# Altium footprint library B_FPC51_P030_STAGGERED.PcbLib: 1 footprints
Each footprint in its own frame and in the unit in brackets; x right, y up, seen from the top. Pads: shape width x height; smd on the part's side, far side on the other; paste and mask are expansions set on the pad; w line width, h text height; cw(c..) or ccw(c..) is an arc to the next point about the centre after c.
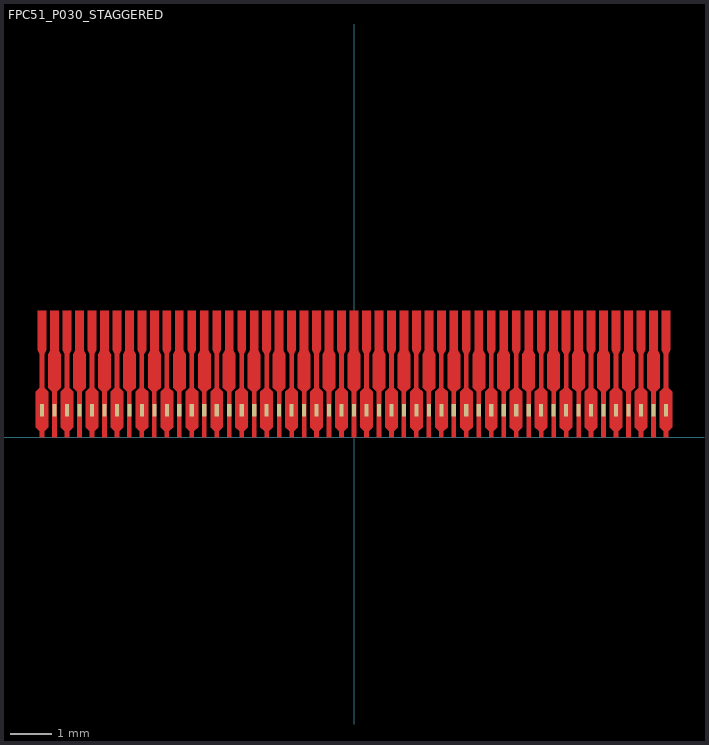
[diagram p0: the footprint, top view; thin cyan lines are the x and y axes]

## FPC51_P030_STAGGERED [mm] "Saved adapter geometry; component-specific orientation"
pads (51):
  rect 0.1x0.3 smd paste-2539.97 mask+0: 1(-7.5,0.65) 2(-7.2,0.65) 3(-6.9,0.65) 4(-6.6,0.65) 5(-6.3,0.65) 6(-6,0.65) 7(-5.7,0.65) 8(-5.4,0.65) 9(-5.1,0.65) 10(-4.8,0.65) 11(-4.5,0.65) 12(-4.2,0.65) 13(-3.9,0.65) 14(-3.6,0.65) 15(-3.3,0.65) 16(-3,0.65) 17(-2.7,0.65) 18(-2.4,0.65) 19(-2.1,0.65) 20(-1.8,0.65) 21(-1.5,0.65) 22(-1.2,0.65) 23(-0.9,0.65) 24(-0.6,0.65) 25(-0.3,0.65) 26(0,0.65) 27(0.3,0.65) 28(0.6,0.65) 29(0.9,0.65) 30(1.2,0.65) 31(1.5,0.65) 32(1.8,0.65) 33(2.1,0.65) 34(2.4,0.65) 35(2.7,0.65) 36(3,0.65) 37(3.3,0.65) 38(3.6,0.65) 39(3.9,0.65) 40(4.2,0.65) 41(4.5,0.65) 42(4.8,0.65) 43(5.1,0.65) 44(5.4,0.65) 45(5.7,0.65) 46(6,0.65) 47(6.3,0.65) 48(6.6,0.65) 49(6.9,0.65) 50(7.2,0.65) 51(7.5,0.65)
Top Layer:
  region: 7.55,0 7.55,0.15 7.65,0.25 7.65,1.1 7.55,1.2 7.55,2 7.6,2.1 7.6,3.05 7.4,3.05 7.4,2.1 7.45,2 7.45,1.2 7.35,1.1 7.35,0.25 7.45,0.15 7.45,0
  region: 7.25,0 7.25,1.1 7.35,1.2 7.35,2 7.3,2.1 7.3,3.05 7.1,3.05 7.1,2.1 7.05,2 7.05,1.2 7.15,1.1 7.15,0
  region: 6.95,0 6.95,0.15 7.05,0.25 7.05,1.1 6.95,1.2 6.95,2 7,2.1 7,3.05 6.8,3.05 6.8,2.1 6.85,2 6.85,1.2 6.75,1.1 6.75,0.25 6.85,0.15 6.85,0
  region: 6.65,0 6.65,1.1 6.75,1.2 6.75,2 6.7,2.1 6.7,3.05 6.5,3.05 6.5,2.1 6.45,2 6.45,1.2 6.55,1.1 6.55,0
  region: 6.35,0 6.35,0.15 6.45,0.25 6.45,1.1 6.35,1.2 6.35,2 6.4,2.1 6.4,3.05 6.2,3.05 6.2,2.1 6.25,2 6.25,1.2 6.15,1.1 6.15,0.25 6.25,0.15 6.25,0
  region: 6.05,0 6.05,1.1 6.15,1.2 6.15,2 6.1,2.1 6.1,3.05 5.9,3.05 5.9,2.1 5.85,2 5.85,1.2 5.95,1.1 5.95,0
  region: 5.75,0 5.75,0.15 5.85,0.25 5.85,1.1 5.75,1.2 5.75,2 5.8,2.1 5.8,3.05 5.6,3.05 5.6,2.1 5.65,2 5.65,1.2 5.55,1.1 5.55,0.25 5.65,0.15 5.65,0
  region: 5.45,0 5.45,1.1 5.55,1.2 5.55,2 5.5,2.1 5.5,3.05 5.3,3.05 5.3,2.1 5.25,2 5.25,1.2 5.35,1.1 5.35,0
  region: 5.15,0 5.15,0.15 5.25,0.25 5.25,1.1 5.15,1.2 5.15,2 5.2,2.1 5.2,3.05 5,3.05 5,2.1 5.05,2 5.05,1.2 4.95,1.1 4.95,0.25 5.05,0.15 5.05,0
  region: 4.85,0 4.85,1.1 4.95,1.2 4.95,2 4.9,2.1 4.9,3.05 4.7,3.05 4.7,2.1 4.65,2 4.65,1.2 4.75,1.1 4.75,0
  region: 4.55,0 4.55,0.15 4.65,0.25 4.65,1.1 4.55,1.2 4.55,2 4.6,2.1 4.6,3.05 4.4,3.05 4.4,2.1 4.45,2 4.45,1.2 4.35,1.1 4.35,0.25 4.45,0.15 4.45,0
  region: 4.25,0 4.25,1.1 4.35,1.2 4.35,2 4.3,2.1 4.3,3.05 4.1,3.05 4.1,2.1 4.05,2 4.05,1.2 4.15,1.1 4.15,0
  region: 3.95,0 3.95,0.15 4.05,0.25 4.05,1.1 3.95,1.2 3.95,2 4,2.1 4,3.05 3.8,3.05 3.8,2.1 3.85,2 3.85,1.2 3.75,1.1 3.75,0.25 3.85,0.15 3.85,0
  region: 3.65,0 3.65,1.1 3.75,1.2 3.75,2 3.7,2.1 3.7,3.05 3.5,3.05 3.5,2.1 3.45,2 3.45,1.2 3.55,1.1 3.55,0
  region: 3.35,0 3.35,0.15 3.45,0.25 3.45,1.1 3.35,1.2 3.35,2 3.4,2.1 3.4,3.05 3.2,3.05 3.2,2.1 3.25,2 3.25,1.2 3.15,1.1 3.15,0.25 3.25,0.15 3.25,0
  region: 3.05,0 3.05,1.1 3.15,1.2 3.15,2 3.1,2.1 3.1,3.05 2.9,3.05 2.9,2.1 2.85,2 2.85,1.2 2.95,1.1 2.95,0
  region: 2.75,0 2.75,0.15 2.85,0.25 2.85,1.1 2.75,1.2 2.75,2 2.8,2.1 2.8,3.05 2.6,3.05 2.6,2.1 2.65,2 2.65,1.2 2.55,1.1 2.55,0.25 2.65,0.15 2.65,0
  region: 2.45,0 2.45,1.1 2.55,1.2 2.55,2 2.5,2.1 2.5,3.05 2.3,3.05 2.3,2.1 2.25,2 2.25,1.2 2.35,1.1 2.35,0
  region: 2.15,0 2.15,0.15 2.25,0.25 2.25,1.1 2.15,1.2 2.15,2 2.2,2.1 2.2,3.05 2,3.05 2,2.1 2.05,2 2.05,1.2 1.95,1.1 1.95,0.25 2.05,0.15 2.05,0
  region: 1.85,0 1.85,1.1 1.95,1.2 1.95,2 1.9,2.1 1.9,3.05 1.7,3.05 1.7,2.1 1.65,2 1.65,1.2 1.75,1.1 1.75,0
  region: 1.55,0 1.55,0.15 1.65,0.25 1.65,1.1 1.55,1.2 1.55,2 1.6,2.1 1.6,3.05 1.4,3.05 1.4,2.1 1.45,2 1.45,1.2 1.35,1.1 1.35,0.25 1.45,0.15 1.45,0
  region: 1.25,0 1.25,1.1 1.35,1.2 1.35,2 1.3,2.1 1.3,3.05 1.1,3.05 1.1,2.1 1.05,2 1.05,1.2 1.15,1.1 1.15,0
  region: 0.95,0 0.95,0.15 1.05,0.25 1.05,1.1 0.95,1.2 0.95,2 1,2.1 1,3.05 0.8,3.05 0.8,2.1 0.85,2 0.85,1.2 0.75,1.1 0.75,0.25 0.85,0.15 0.85,0
  region: 0.65,0 0.65,1.1 0.75,1.2 0.75,2 0.7,2.1 0.7,3.05 0.5,3.05 0.5,2.1 0.45,2 0.45,1.2 0.55,1.1 0.55,0
  region: 0.35,0 0.35,0.15 0.45,0.25 0.45,1.1 0.35,1.2 0.35,2 0.4,2.1 0.4,3.05 0.2,3.05 0.2,2.1 0.25,2 0.25,1.2 0.15,1.1 0.15,0.25 0.25,0.15 0.25,0
  region: 0.05,0 0.05,1.1 0.15,1.2 0.15,2 0.1,2.1 0.1,3.05 -0.1,3.05 -0.1,2.1 -0.15,2 -0.15,1.2 -0.05,1.1 -0.05,0
  region: -0.25,0 -0.25,0.15 -0.15,0.25 -0.15,1.1 -0.25,1.2 -0.25,2 -0.2,2.1 -0.2,3.05 -0.4,3.05 -0.4,2.1 -0.35,2 -0.35,1.2 -0.45,1.1 -0.45,0.25 -0.35,0.15 -0.35,0
  region: -0.55,0 -0.55,1.1 -0.45,1.2 -0.45,2 -0.5,2.1 -0.5,3.05 -0.7,3.05 -0.7,2.1 -0.75,2 -0.75,1.2 -0.65,1.1 -0.65,0
  region: -0.85,0 -0.85,0.15 -0.75,0.25 -0.75,1.1 -0.85,1.2 -0.85,2 -0.8,2.1 -0.8,3.05 -1,3.05 -1,2.1 -0.95,2 -0.95,1.2 -1.05,1.1 -1.05,0.25 -0.95,0.15 -0.95,0
  region: -1.15,0 -1.15,1.1 -1.05,1.2 -1.05,2 -1.1,2.1 -1.1,3.05 -1.3,3.05 -1.3,2.1 -1.35,2 -1.35,1.2 -1.25,1.1 -1.25,0
  region: -1.45,0 -1.45,0.15 -1.35,0.25 -1.35,1.1 -1.45,1.2 -1.45,2 -1.4,2.1 -1.4,3.05 -1.6,3.05 -1.6,2.1 -1.55,2 -1.55,1.2 -1.65,1.1 -1.65,0.25 -1.55,0.15 -1.55,0
  region: -1.75,0 -1.75,1.1 -1.65,1.2 -1.65,2 -1.7,2.1 -1.7,3.05 -1.9,3.05 -1.9,2.1 -1.95,2 -1.95,1.2 -1.85,1.1 -1.85,0
  region: -2.05,0 -2.05,0.15 -1.95,0.25 -1.95,1.1 -2.05,1.2 -2.05,2 -2,2.1 -2,3.05 -2.2,3.05 -2.2,2.1 -2.15,2 -2.15,1.2 -2.25,1.1 -2.25,0.25 -2.15,0.15 -2.15,0
  region: -2.35,0 -2.35,1.1 -2.25,1.2 -2.25,2 -2.3,2.1 -2.3,3.05 -2.5,3.05 -2.5,2.1 -2.55,2 -2.55,1.2 -2.45,1.1 -2.45,0
  region: -2.65,0 -2.65,0.15 -2.55,0.25 -2.55,1.1 -2.65,1.2 -2.65,2 -2.6,2.1 -2.6,3.05 -2.8,3.05 -2.8,2.1 -2.75,2 -2.75,1.2 -2.85,1.1 -2.85,0.25 -2.75,0.15 -2.75,0
  region: -2.95,0 -2.95,1.1 -2.85,1.2 -2.85,2 -2.9,2.1 -2.9,3.05 -3.1,3.05 -3.1,2.1 -3.15,2 -3.15,1.2 -3.05,1.1 -3.05,0
  region: -3.25,0 -3.25,0.15 -3.15,0.25 -3.15,1.1 -3.25,1.2 -3.25,2 -3.2,2.1 -3.2,3.05 -3.4,3.05 -3.4,2.1 -3.35,2 -3.35,1.2 -3.45,1.1 -3.45,0.25 -3.35,0.15 -3.35,0
  region: -3.55,0 -3.55,1.1 -3.45,1.2 -3.45,2 -3.5,2.1 -3.5,3.05 -3.7,3.05 -3.7,2.1 -3.75,2 -3.75,1.2 -3.65,1.1 -3.65,0
  region: -3.85,0 -3.85,0.15 -3.75,0.25 -3.75,1.1 -3.85,1.2 -3.85,2 -3.8,2.1 -3.8,3.05 -4,3.05 -4,2.1 -3.95,2 -3.95,1.2 -4.05,1.1 -4.05,0.25 -3.95,0.15 -3.95,0
  region: -4.15,0 -4.15,1.1 -4.05,1.2 -4.05,2 -4.1,2.1 -4.1,3.05 -4.3,3.05 -4.3,2.1 -4.35,2 -4.35,1.2 -4.25,1.1 -4.25,0
  region: -4.45,0 -4.45,0.15 -4.35,0.25 -4.35,1.1 -4.45,1.2 -4.45,2 -4.4,2.1 -4.4,3.05 -4.6,3.05 -4.6,2.1 -4.55,2 -4.55,1.2 -4.65,1.1 -4.65,0.25 -4.55,0.15 -4.55,0
  region: -4.75,0 -4.75,1.1 -4.65,1.2 -4.65,2 -4.7,2.1 -4.7,3.05 -4.9,3.05 -4.9,2.1 -4.95,2 -4.95,1.2 -4.85,1.1 -4.85,0
  region: -5.05,0 -5.05,0.15 -4.95,0.25 -4.95,1.1 -5.05,1.2 -5.05,2 -5,2.1 -5,3.05 -5.2,3.05 -5.2,2.1 -5.15,2 -5.15,1.2 -5.25,1.1 -5.25,0.25 -5.15,0.15 -5.15,0
  region: -5.35,0 -5.35,1.1 -5.25,1.2 -5.25,2 -5.3,2.1 -5.3,3.05 -5.5,3.05 -5.5,2.1 -5.55,2 -5.55,1.2 -5.45,1.1 -5.45,0
  region: -5.65,0 -5.65,0.15 -5.55,0.25 -5.55,1.1 -5.65,1.2 -5.65,2 -5.6,2.1 -5.6,3.05 -5.8,3.05 -5.8,2.1 -5.75,2 -5.75,1.2 -5.85,1.1 -5.85,0.25 -5.75,0.15 -5.75,0
  region: -5.95,0 -5.95,1.1 -5.85,1.2 -5.85,2 -5.9,2.1 -5.9,3.05 -6.1,3.05 -6.1,2.1 -6.15,2 -6.15,1.2 -6.05,1.1 -6.05,0
  region: -6.25,0 -6.25,0.15 -6.15,0.25 -6.15,1.1 -6.25,1.2 -6.25,2 -6.2,2.1 -6.2,3.05 -6.4,3.05 -6.4,2.1 -6.35,2 -6.35,1.2 -6.45,1.1 -6.45,0.25 -6.35,0.15 -6.35,0
  region: -6.55,0 -6.55,1.1 -6.45,1.2 -6.45,2 -6.5,2.1 -6.5,3.05 -6.7,3.05 -6.7,2.1 -6.75,2 -6.75,1.2 -6.65,1.1 -6.65,0
  region: -6.85,0 -6.85,0.15 -6.75,0.25 -6.75,1.1 -6.85,1.2 -6.85,2 -6.8,2.1 -6.8,3.05 -7,3.05 -7,2.1 -6.95,2 -6.95,1.2 -7.05,1.1 -7.05,0.25 -6.95,0.15 -6.95,0
  region: -7.15,0 -7.15,1.1 -7.05,1.2 -7.05,2 -7.1,2.1 -7.1,3.05 -7.3,3.05 -7.3,2.1 -7.35,2 -7.35,1.2 -7.25,1.1 -7.25,0
  region: -7.45,0 -7.45,0.15 -7.35,0.25 -7.35,1.1 -7.45,1.2 -7.45,2 -7.4,2.1 -7.4,3.05 -7.6,3.05 -7.6,2.1 -7.55,2 -7.55,1.2 -7.65,1.1 -7.65,0.25 -7.55,0.15 -7.55,0